# EAGLE library part TPS60151 (library ERIC)
Texas Instruments 5V/140mA Charge Pump Device
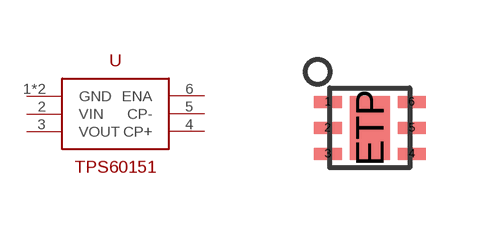
[diagram p38: symbol with the pads of DRV; footprint DRV]

Designator prefix -

## TPS60151  [DRV]
1  GND  pwr
2  VIN  pwr
3  VOUT  sup
4  CP+  in
5  CP-  in
6  ENA  in
ETP  GND  pwr

## Footprint DRV (pad centres in mm)
Footprint for TPS60151
smd 0.7 x 0.3: 1 -1.05,0.65; 2 -1.05,0; 3 -1.05,-0.65; 4 1.05,-0.65; 5 1.05,0; 6 1.05,0.65
smd 1 x 1.6: ETP 0,0